# Altium schematic symbol library NER_SchLib.SchLib: 2 symbols
Pins are listed as number, name and electrical type; pins without a type are passive.

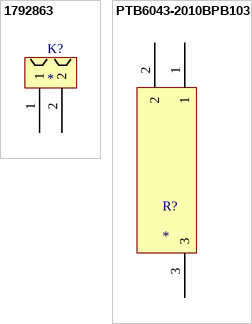
[diagram p0: symbols 1792863 to PTB6043-2010BPB103]

## 1792863
designator K?
ComponentLink1Description: Datasheet; ComponentLink1URL: https://www.mouser.com/datasheet/2/324/3/ItemDetail_1792863-921853.pdf
footprint 1792863
pins: 1, 2

## PTB6043-2010BPB103
designator R?
ComponentLink1Description: Datasheet; ComponentLink1URL: https://www.mouser.com/datasheet/2/54/ptb-777940.pdf
footprint PTB6043-2010BPB103; pin to pad 1>2 2>3 3>1
pins: 1, 2, 3